# Altium schematic symbol library P783F-Q24-S12-S.SchLib: 1 symbol
Pins are listed as number, name and electrical type; pins without a type are passive.

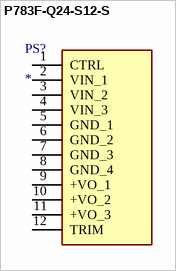
[diagram p0: symbol P783F-Q24-S12-S]

## P783F-Q24-S12-S
designator PS?
Power Supply; Manufacturer_Name: CUI Inc.; Manufacturer_Part_Number: P783F-Q24-S12-S; Datasheet Link: https://www.cui.com/product/resource/p783f-s.pdf; Height: 13mm
footprint P783FQ24S12S
pins: 1 CTRL, 2 VIN_1, 3 VIN_2, 4 VIN_3, 5 GND_1, 6 GND_2, 7 GND_3, 8 GND_4, 9 +VO_1, 10 +VO_2, 11 +VO_3, 12 TRIM